# EAGLE library part 4DIGIT_SEVEN_SEGMENT (library led-7-segment)
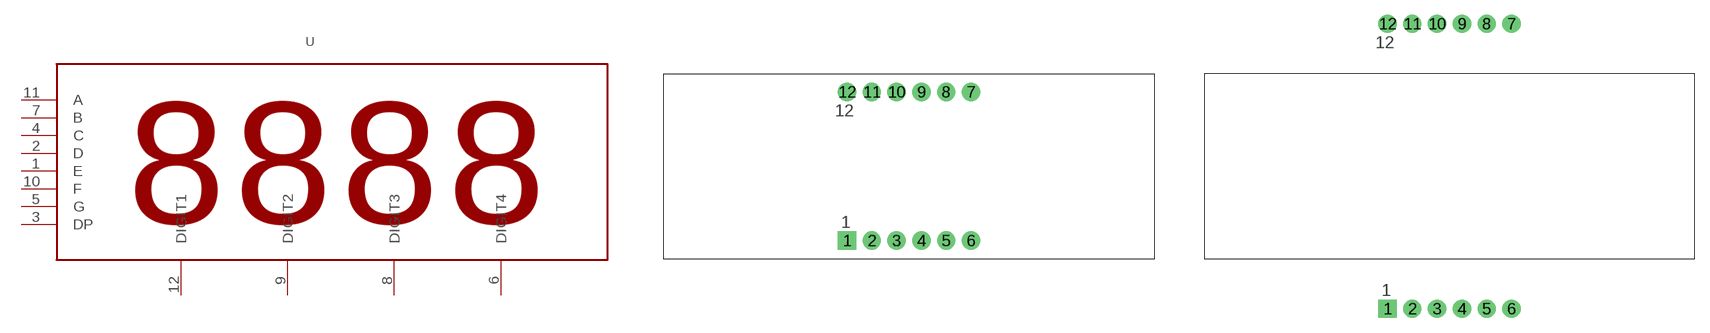
[diagram p3: symbol with the pads of 4DIGIT_SEVEN_SEGMENT; footprints 4DIGIT_SEVEN_SEGMENT, 4DIGIT_SEVEN_SEGMENT_FAR_PINS]

Designator prefix -

## 4DIGIT_SEVEN_SEGMENT4DIGIT_SEVEN_SEGMENT  [4DIGIT_SEVEN_SEGMENT]
1  E
2  D
3  DP
4  C
5  G
6  DIGIT4
7  B
8  DIGIT3
9  DIGIT2
10  F
11  A
12  DIGIT1

## 4DIGIT_SEVEN_SEGMENT4DIGIT_SEVEN_SEGMENT_FAR_PINS  [4DIGIT_SEVEN_SEGMENT_FAR_PINS]
Pads as for 4DIGIT_SEVEN_SEGMENT

## 4DIGIT_SEVEN_SEGMENT4DIGIT_SEVEN_SEGMENT_OVAL_PIN  [4DIGIT_SEVEN_SEGMENT_OVAL_PIN]
Pads as for 4DIGIT_SEVEN_SEGMENT

## Footprint 4DIGIT_SEVEN_SEGMENT (pad centres in mm)
drill 1.016 pad 1.88 square: 1 -6.35,-7.62
drill 0.8 pad 1.88: 2 -3.81,-7.62; 3 -1.27,-7.62; 4 1.27,-7.62; 5 3.81,-7.62; 6 6.35,-7.62; 7 6.35,7.62; 8 3.81,7.62; 9 1.27,7.62; 10 -1.27,7.62; 11 -3.81,7.62; 12 -6.35,7.62

## Footprint 4DIGIT_SEVEN_SEGMENT_FAR_PINS (pad centres in mm)
drill 0.8 pad 1.88 square: 1 -6.35,-14.605
drill 0.8 pad 1.88: 2 -3.81,-14.605; 3 -1.27,-14.605; 4 1.27,-14.605; 5 3.81,-14.605; 6 6.35,-14.605; 7 6.35,14.605; 8 3.81,14.605; 9 1.27,14.605; 10 -1.27,14.605; 11 -3.81,14.605; 12 -6.35,14.605

## Footprint 4DIGIT_SEVEN_SEGMENT_OVAL_PIN (pad centres in mm)
drill 1.016 pad 1.88 offset: 1 -6.35,-7.62
drill 0.8 pad 1.88 offset: 2 -3.81,-7.62; 3 -1.27,-7.62; 4 1.27,-7.62; 5 3.81,-7.62; 6 6.35,-7.62; 7 6.35,7.62; 8 3.81,7.62; 9 1.27,7.62; 10 -1.27,7.62; 11 -3.81,7.62; 12 -6.35,7.62